# Altium schematic symbol library Diodes.SchLib: 11 symbols
Pins are listed as number, name and electrical type; pins without a type are passive.

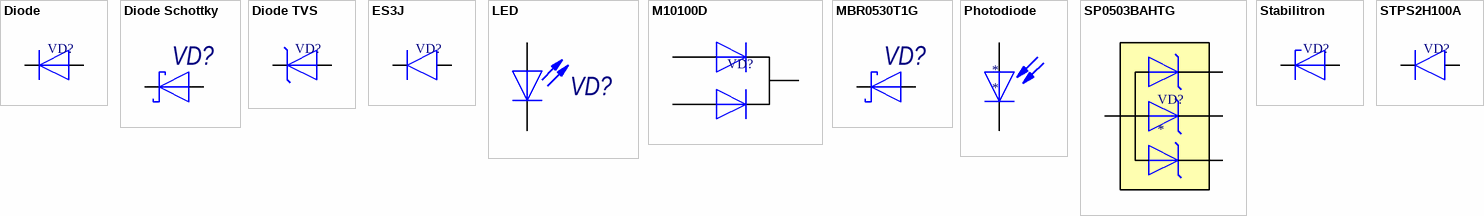
[diagram p0: symbols Diode to STPS2H100A]

## Diode
designator VD?  (value not drawn)
Diode; Imax: *; Name: *; Vr: *; Vf: *
footprint DO-214AA
footprint SOD123
pins: 1 K, 2 A

## Diode Schottky
designator VD?
Diode Schottky
footprint SOD123
footprint DPAK (D-PAK, 3-Pads, Body 6,20x6,66mm (max), IPC Medium Density)
pins: 1 K, 2 A

## Diode TVS
designator VD?  (value not drawn)
TVS Diode (Supressor); Name: *; Value: *
footprint DO-214AA
footprint DO-214AC
pins: 1 K, 2 A

## ES3J
designator VD?  (value not drawn)
Diode 600V 3A; Imax: 3; Vr: 600; Vf: 1.7; Name: *
footprint DO-214AB
pins: 1 K, 2 A

## LED
designator VD?
LED; Manufacturer: KGB; Forward voltage; 25мА: 2,15В; Max. forward current (continuous): 25мА; Package: 0603
footprint 0603_LED_BLUE
footprint 0603_LED _GREEN
footprint 0603_LED _RED
footprint 1206_LED_BLUE
footprint 1206_LED_GREEN
footprint 1206_LED_RED
footprint 0805_LED _BLUE
footprint 0805_LED _RED
footprint 0805_LED _GREEN
pins: 1 K, 2 A

## M10100D
designator VD?  (value not drawn)
10.0 AMP Surface Mount Schottky Barrier Rectifiers; Imax: 10; Name: *; Vr: *; Vf: *; Datasheet: https://pdf1.alldatasheet.com/datasheet-pdf/view/279399/SECOS/SM10100D1.html
footprint DPAK (D-PAK, 3-Pads, Body 6,20x6,66mm (max), IPC Medium Density)
pins: 1 K, 1 K, 1, 2 A, 2 A, 2, 3

## MBR0530T1G
designator VD?
Diode Schottky 30V 0.5A; Vr: 30V; Imax: 0.5A
footprint SOD123
pins: 1 K, 2 A

## Photodiode
designator *
Photodiode
footprint TEMD1020
pins: 1 С, 2 A

## SP0503BAHTG
designator VD?
3 TVS Diodes assembly, 5V
footprint SOT143 (SOT143, 4-Leads, Body 2,92x2,37mm, Pitch 1,90mm, IPC Medium Density)
pins: 1 A, 2 C, 3 C, 4 C

## Stabilitron
designator VD?
Stabilitron
footprint SOT23-3
pins: D K, G A

## STPS2H100A
designator VD?  (value not drawn)
Diode 100V 2A; Imax: 2; Vr: 100; Name: *; Vf: *
footprint DO-214AA
pins: 1 K, 2 A